# Altium schematic symbol library Conn_Molex_53048-0210_eec.SchLib: 1 symbol
Pins are listed as number, name and electrical type; pins without a type are passive.

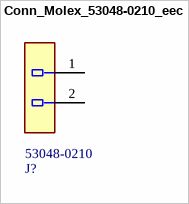
[diagram p0: symbol Conn_Molex_53048-0210_eec]

## Conn_Molex_53048-0210_eec
designator J?  Part Number: 53048-0210
CONN HEADER 2POS 1.25MM R/A TIN; Manufacturer: Molex; helpURL: https://upverter.com/upn/revision/f61c9e81ab28af01/; ComponentLink2Description: Datasheet; Temperature: -40°C to +85°C; Package: HDR2; Supplier 2: Mouser; Supplier 1: Digi-Key; ComponentLink1URL: https://upverter.com/upn/revision/f61c9e81ab28af01/; Supplier Part Number 2: 538-53048-0210; Supplier Part Number 1: WM1742-ND; ComponentLink1Description: Upverter; ComponentLink2URL: http://www.molex.com/pdm_docs/sd/530480210_sd.pdf; RoHS: TRUE; Mouser Part Number: 538-53048-0210; Temperature Range High: +85°C; Digikey Description: CONN HEADER 2POS 1.25MM R/A TIN; Digikey Part Number: WM1742-ND; Temperature Range Low: -40°C; Lead Free: yes
footprint Molex_53048-0210_0
pins: 1, 2